# Altium footprint library LCD.PcbLib: 1 footprints
Each footprint in its own frame and in the unit in brackets; x right, y up, seen from the top. Pads: shape width x height; smd on the part's side, far side on the other; paste and mask are expansions set on the pad; w line width, h text height; cw(c..) or ccw(c..) is an arc to the next point about the centre after c.
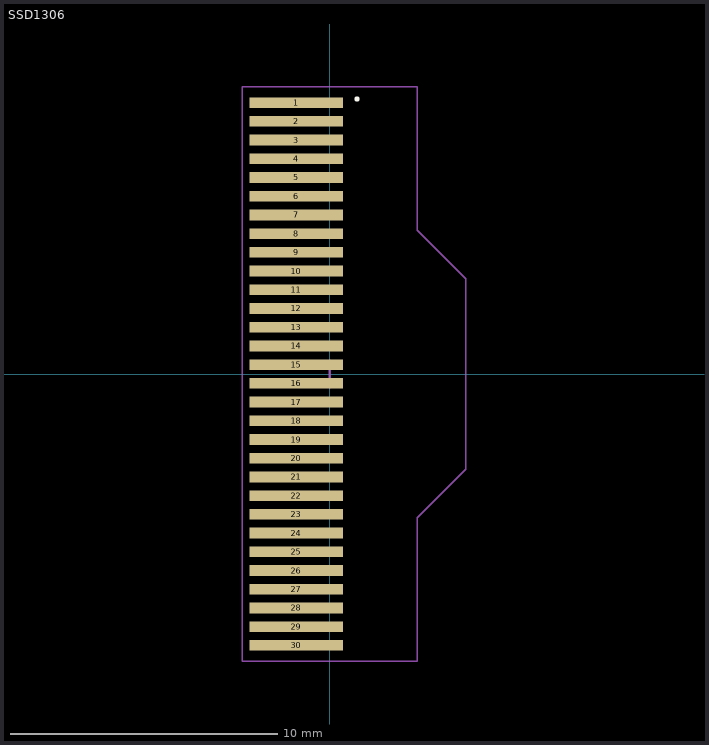
[diagram p0: the footprint, top view; thin cyan lines are the x and y axes]

## SSD1306 [mm] "Chip Array, 30 pin"
height 0.6
pads (30):
  rect 3.5x0.4 smd mask+0.102: 1(-1.25,10.15) 2(-1.25,9.45) 3(-1.25,8.75) 4(-1.25,8.05) 5(-1.25,7.35) 6(-1.25,6.65) 7(-1.25,5.95) 8(-1.25,5.25) 9(-1.25,4.55) 10(-1.25,3.85) 11(-1.25,3.15) 12(-1.25,2.45) 13(-1.25,1.75) 14(-1.25,1.05) 15(-1.25,0.35) 16(-1.25,-0.35) 17(-1.25,-1.05) 18(-1.25,-1.75) 19(-1.25,-2.45) 20(-1.25,-3.15) 21(-1.25,-3.85) 22(-1.25,-4.55) 23(-1.25,-5.25) 24(-1.25,-5.95) 25(-1.25,-6.65) 26(-1.25,-7.35) 27(-1.25,-8.05) 28(-1.25,-8.75) 29(-1.25,-9.45) 30(-1.25,-10.15)
Top Overlay:
  circle w0.1: c1.016,10.287 r0.05
Mechanical 15:
  lines w0.05: -3.27,-10.75 3.27,-10.75 3.27,-5.375 5.08,-3.565 5.08,3.565 3.27,5.375 3.27,10.75 -3.27,10.75 -3.27,-10.75
  lines w0.1: 0,-0.5 0,0.5